# EAGLE library part PCB_SCREW_TERM_8 (library Steering)
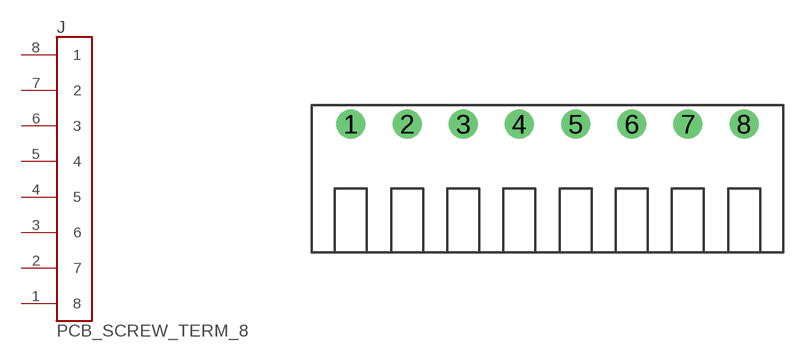
[diagram p4: symbol with the pads of SCREW_TERMINAL_PCB_CONN_8_POLE; footprint SCREW_TERMINAL_PCB_CONN_8_POLE]

Designator prefix J

## PCB_SCREW_TERM_8 (DKPT: 732-2774-ND)  [SCREW_TERMINAL_PCB_CONN_8_POLE]
1  8  pas
2  7  pas
3  6  pas
4  5  pas
5  4  pas
6  3  pas
7  2  pas
8  1  pas

## Footprint SCREW_TERMINAL_PCB_CONN_8_POLE (pad centres in mm)
https://www.digikey.com/product-detail/en/phoenix-contact/1985027/277-7676-ND/3597013
drill 1.2: 1 -12,2; 2 -8.5,2; 3 -5,2; 4 -1.5,2; 5 2,2; 6 5.5,2; 7 9,2; 8 12.5,2